# Altium schematic symbol library WCH-CH448F.SchLib: 1 symbol
Pins are listed as number, name and electrical type; pins without a type are passive.

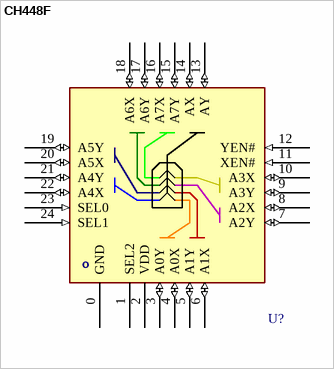
[diagram p0: symbol CH448F]

## CH448F
designator U?
pins: 0 GND (power), 1 SEL2 (power), 2 VDD (power), 3 A0Y (io), 4 A0X (io), 5 A1Y (io), 6 A1X (io), 7 A2Y (io), 8 A2X (io), 9 A3Y (io), 10 A3X (io), 11 XEN# (in), 12 YEN# (in), 13 AY (io), 14 AX (io), 15 A7Y (io), 16 A7X (io), 17 A6Y (io), 18 A6X (io), 19 A5Y (io), 20 A5X (io), 21 A4Y (io), 22 A4X (io), 23 SEL0 (in), 24 SEL1 (in)
2 alternate drawings of the same symbol
text: o